# EAGLE library part DRV2603 (library texas)
Haptic drive autoresonance vibrator motor driver
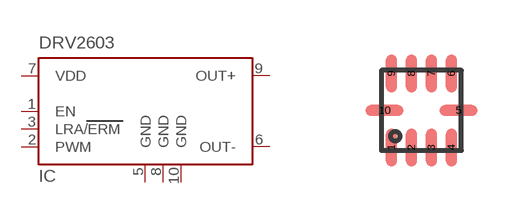
[diagram p31: symbol with the pads of QFN10; footprint QFN10]

Designator prefix IC

## DRV2603RUN  [QFN10]
1  EN  in
2  PWM  in
3  LRA/ERM  in
5  GND  pwr
6  OUT-  out
7  VDD  pwr
8  GND  pwr
9  OUT+  out
10  GND  pwr

## Footprint QFN10 (pad centres in mm)
Plactic quad flatpack no-lead
smd 0.28 x 0.95: 1 -0.75,-0.925; 2 -0.25,-0.925; 3 0.25,-0.925; 4 0.75,-0.925; 6 0.75,0.925; 7 0.25,0.925; 8 -0.25,0.925; 9 -0.75,0.925
smd 0.95 x 0.28: 5 0.925,0; 10 -0.925,0